# Altium schematic symbol library SCH - POWER - SWITCHMODE - TI TPS54824RNV.SchLib: 1 symbol
Pins are listed as number, name and electrical type; pins without a type are passive.

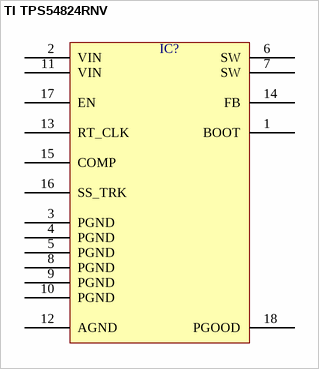
[diagram p0: symbol TI TPS54824RNV]

## TI TPS54824RNV
designator IC?  (value not drawn)
pins: 1 BOOT, 2 VIN, 3 PGND, 4 PGND, 5 PGND, 6 SW, 7 SW, 8 PGND, 9 PGND, 10 PGND, 11 VIN, 12 AGND, 13 RT_CLK, 14 FB, 15 COMP, 16 SS_TRK, 17 EN, 18 PGOOD